# Altium footprint library ppd.PcbLib: 4 footprints
Each footprint in its own frame and in the unit in brackets; x right, y up, seen from the top. Pads: shape width x height; smd on the part's side, far side on the other; paste and mask are expansions set on the pad; w line width, h text height; cw(c..) or ccw(c..) is an arc to the next point about the centre after c.
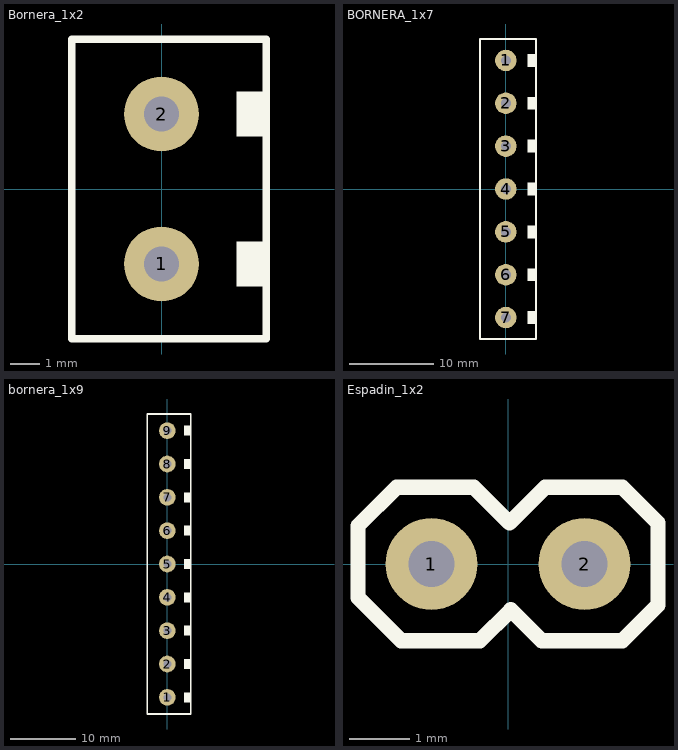
[diagram p0: the footprints below, top view; thin cyan lines are the x and y axes]

## Bornera_1x2 [mm]
pads (2):
  round 2.54 hole 1.2: 1(0,-2.54) 2(0,2.54)
Top Overlay:
  rectangle: 2.54,1.778 3.556,3.302
  rectangle: 2.54,-3.302 3.556,-1.778
  lines w0.254: -3.048,-5.08 -3.048,5.08 0,5.08 3.556,5.08 3.556,-5.08 3.302,-5.08 -3.048,-5.08
3D body "ak500-2pin.step": height 10, standoff -2.8, extent -3.19,-5.306 3.81,5.094

## BORNERA_1x7 [mm]
pads (7):
  round 2.54 hole 1.2: 1(0,15.24) 2(0,10.16) 3(0,5.08) 4(0,0) 5(0,-5.08) 6(0,-10.16) 7(0,-15.24)
Top Overlay:
  rectangle: 2.54,-16.002 3.556,-14.478
  rectangle: 2.54,-10.922 3.556,-9.398
  rectangle: 2.54,-5.842 3.556,-4.318
  rectangle: 2.54,14.478 3.556,16.002
  rectangle: 2.54,9.398 3.556,10.922
  rectangle: 2.54,-0.762 3.556,0.762
  rectangle: 2.54,4.318 3.556,5.842
  lines w0.254: -3.048,-17.78 3.556,-17.78 3.556,-17.526 3.556,-2.54 3.556,17.78 -3.048,17.78 -3.048,-2.54 -3.048,-17.78
3D body "ak500-3pin.step": height 10, standoff -2.8, extent -3.292,-17.701 3.708,-2.201
3D body "ak500-2pin.step": height 10.01, standoff -2.79, extent -3.319,-2.561 3.681,7.839
3D body "ak500-2pin.step": height 10.01, standoff -2.79, extent -3.319,7.303 3.681,17.703

## bornera_1x9 [mm]
pads (9):
  round 2.54 hole 1.2: 1(0,-20.32) 2(0,-15.24) 3(0,-10.16) 4(0,-5.08) 5(0,0) 6(0,5.08) 7(0,10.16) 8(0,15.24) 9(0,20.32)
Top Overlay:
  rectangle: 2.54,-10.922 3.556,-9.398
  rectangle: 2.54,-5.842 3.556,-4.318
  rectangle: 2.54,-0.762 3.556,0.762
  rectangle: 2.54,4.318 3.556,5.842
  rectangle: 2.54,9.398 3.556,10.922
  rectangle: 2.54,14.478 3.556,16.002
  rectangle: 2.54,19.558 3.556,21.082
  rectangle: 2.54,-16.002 3.556,-14.478
  rectangle: 2.54,-21.082 3.556,-19.558
  lines w0.254: -3.048,-22.86 3.556,-22.86 3.556,-12.7 3.556,-2.54 3.556,22.86 -3.048,22.86 -3.048,-2.54 -3.048,-12.7 -3.048,-22.86
3D body "ak500-3pin.step": height 10.01, standoff -2.79, extent -3.19,-23.244 3.81,-7.744
3D body "ak500-3pin.step": height 10.01, standoff -2.79, extent -3.197,-8.115 3.803,7.385
3D body "ak500-3pin.step": height 10.01, standoff -2.79, extent -3.233,6.945 3.767,22.445

## Espadin_1x2 [mil]
pads (2):
  round 60 hole 30: 1(-50,0) 2(50,0)
Top Overlay:
  lines w10: -98,-21.96 -69.87,-50.09 -18.25,-50.09 1.88,-29.96 22.01,-50.09 74.8,-50.09 98,-26.89 98,26.92 74.81,50.11 24.11,50.11 0.92,26.92 -22.27,50.11 -72.89,50.11 -98,25 -98,-21.96